# EAGLE library part LMC7660 (library robot-hand)
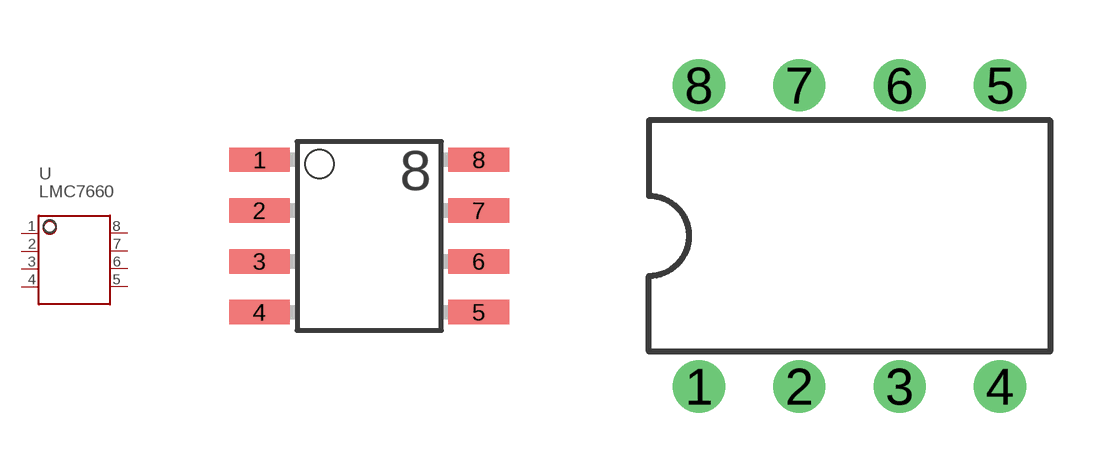
[diagram p9: symbol with the pads of SOIC8; footprints SOIC8, DIL08]

Designator prefix -

## LMC7660S  [SOIC8]
1  N/C
2  CAP+
3  GND
4  CAP-
5  VOUT
6  LV
7  OSC
8  V+

## LMC7660P  [DIL08]
Pads as for SOIC8

## Footprint SOIC8 (pad centres in mm)
Small Outline IC
smd 1.524 x 0.61: 1 -2.743,1.905; 2 -2.743,0.635; 3 -2.743,-0.635; 4 -2.743,-1.905; 5 2.743,-1.905; 6 2.743,-0.635; 7 2.743,0.635; 8 2.743,1.905

## Footprint DIL08 (pad centres in mm)
Dual In Line Package
drill 0.813 pad 1.27: 1 -3.81,-3.81; 2 -1.27,-3.81; 3 1.27,-3.81; 4 3.81,-3.81; 5 3.81,3.81; 6 1.27,3.81; 7 -1.27,3.81; 8 -3.81,3.81